# Altium schematic symbol library IC. Interface.SchLib: 24 symbols
Pins are listed as number, name and electrical type; pins without a type are passive.

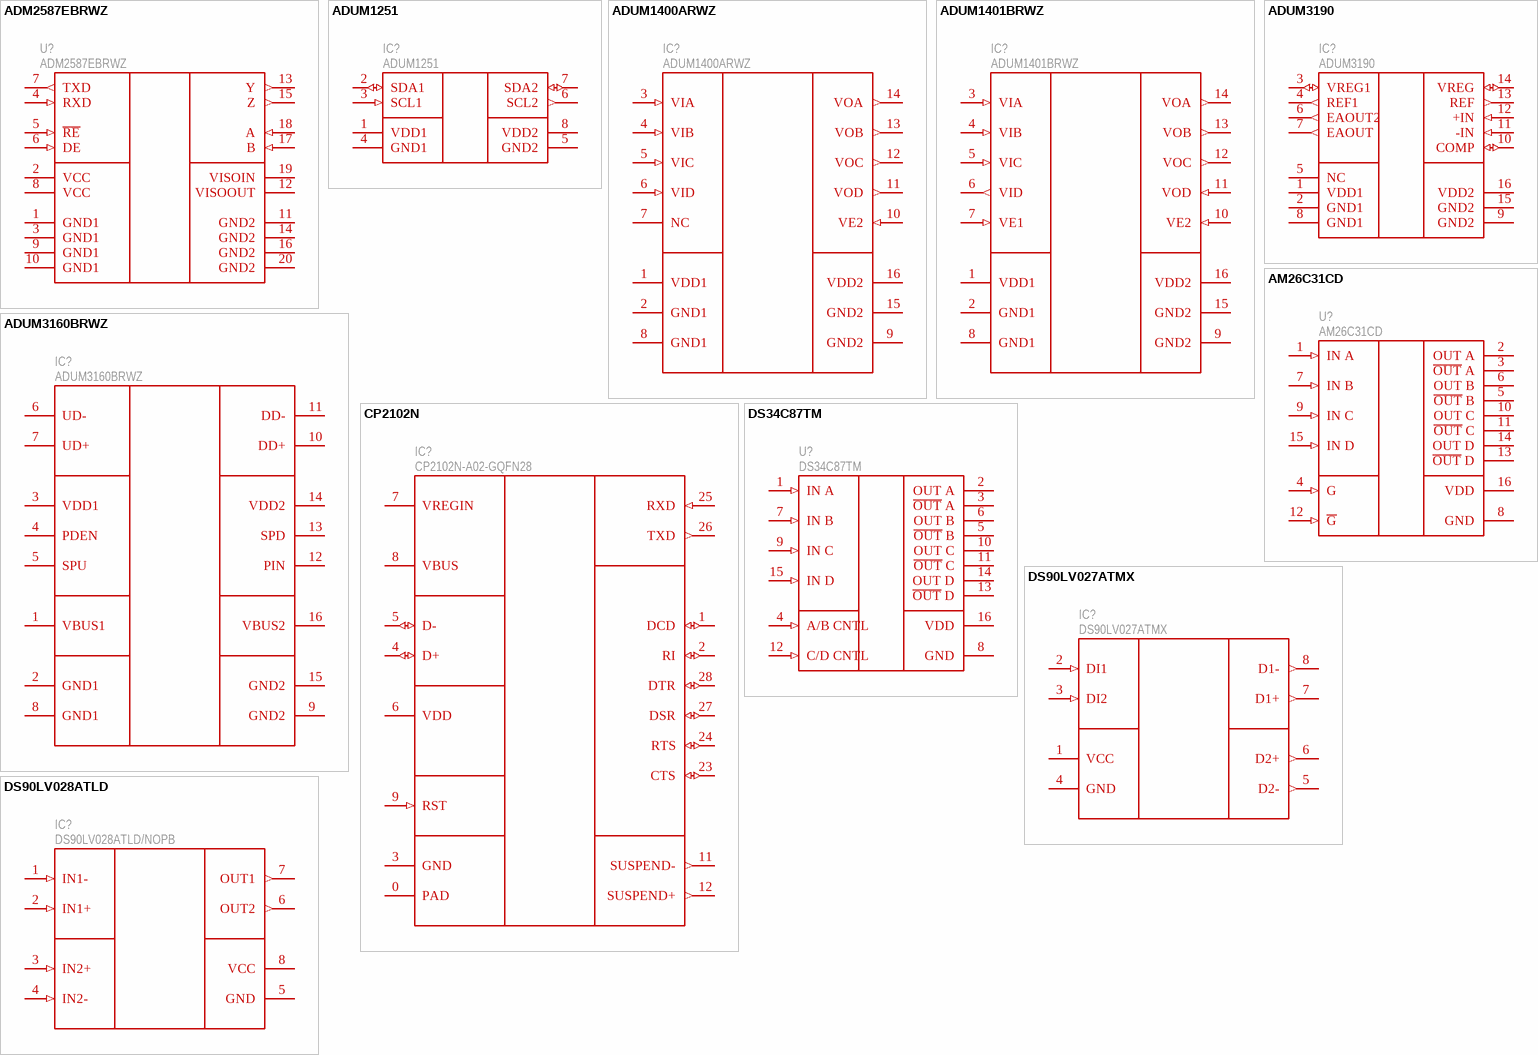
[diagram p0: symbols ADM2587EBRWZ to DS90LV028ATLD]

## ADM2587EBRWZ
designator U?  PartNumber: ADM2587EBRWZ
RS-485 Transceiver with +/- 15 KV ESD Protection, 500 Kbps, -40 to 85 degC, 20-Pin SOIC (RW20), RoHS, Tube; Manufacturer: Analog Devices; Number of Transmitters: 1; Dual Supply Voltage (Max): NotRequiredV; DELETED: Compliant; Data Transmission Topology: Multidrop/Multipoint; Package Version: 060706-A, 06/2006; Single Supply Voltage (Max): 5.5V; Data Rate: 16kbps; Receiver Signal Type: Differential; Rad Hardened: No; Single Supply Voltage (Typ): 3.3/5V; Power Supply Requirement: Single; Single Supply Voltage (Min): 3V; Supply Current: 125mA; Operating Temp Range: -40Cto85C; Mounting: SurfaceMount; Datasheet Version: Rev. E, 10/2014; Manufacturer URL: http://www.analog.com/; Mounting Technology: SurfaceMount; Package Description: 20-Pin Standard Small Outline Package, Body 12.8 x 7.5 mm, Pitch 1.27 mm; Pin Count: 20; Dual Supply Voltage (Typ): NotRequiredV; Package Type: SOICW; Package URL: http://www.analog.com/static/imported-files/packages/233848RW_20.pdf; Packaging: Rail/Tube; Transmitter Signal Type: Differential; Number of Receivers: 1; Number of Transceivers: 1; Package Reference: RW-20; Operating Temperature Classification: Industrial; Dual Supply Voltage (Min): NotRequiredV; Datasheet URL: http://www.analog.com/media/en/technical-documentation/data-sheets/ADM2582E_2587E.pdf
footprint 20-SOIC (SOIC, 20-Leads, Body 12,80x7,50mm, Pitch 1,27mm, IPC Medium Density)
pins: 1 GND1 (power) "Ground, Logic Side.", 2 VCC (power) "Logic Side Power Supply", 3 GND1 (power) "Ground, Logic Side.", 4 RXD (in) "Receiver Output Data", 5 ~{RE} (in) "Receiver Enable Input", 6 DE (in) "Driver Enable Input", 7 TXD (out) "Driver Input", 8 VCC (power) "Logic Side Power Supply", 9 GND1 (power) "Ground, Logic Side.", 10 GND1 (power) "Ground, Logic Side.", 11 GND2 (power) "Ground, Bus Side.", 12 VISOOUT (power) "Isolated Power Supply Output.", 13 Y (out) "Driver Noninverting Output", 14 GND2 (power) "Ground, Bus Side.", 15 Z (out) "Driver Inverting Output", 16 GND2 (power) "Ground, Bus Side.", 17 B (in) "Receiver Inverting Input.", 18 A (in) "Receiver Noninverting Input.", 19 VISOIN (power) "Isolated Power Supply Input.", 20 GND2 (power) "Ground, Bus Side."

## ADUM1251
designator IC?  PartNumber: ADUM1251
I2C Isolator; Manufacturer: Analog Devices; Max Data Rate: 1Mbps; Insulation Rating (kVrms): 2.5; DatasheetVersion: Rev. H; ComponentLink1URL: http://www.analog.com/en/index.html; ComponentLink1Description: Manufacturer URL; ComponentLink3URL: http://www.analog.com/static/imported-files/packages/PKG_PDF/SOIC_WIDE%20%28RW%29/RW_16.pdf; ComponentLink4Description: URL Link1; ComponentLink5URL: Reference Circuit:http://www.analog.com/en/interface-isolation/digital-isolators/adum1400/products/product.html#product-recommendations; PackageReference: RW-16; Max Operating Temp (degreesC): 125; Code_JEDEC: MS-013-AA; PackageVersion: 032707-B, 03/2007; ComponentLink2URL: http://www.analog.com/static/imported-files/data_sheets/ADuM1400_1401_1402.pdf; ComponentLink2Description: Datasheet; ComponentLink3Description: Package Specification; Mounting Technology: Surface Mount; ComponentLink4URL: Product URL:http://www.analog.com/en/interface-isolation/digital-isolators/adum1400/products/product.html; ComponentLink5Description: URL Link2; PackageDescription: 16-Pin Standard Small Outline Package, Body 10.3 x 7.5 mm, Pitch 1.27 mm
footprint 8-SOIC (pitch 1.27 mm)
pins: 1 VDD1 (power), 2 SDA1 (io), 3 SCL1 (in), 4 GND1 (power), 5 GND2 (power), 6 SCL2 (out), 7 SDA2 (io), 8 VDD2 (power)

## ADUM1400ARWZ
designator IC?  PartNumber: ADUM1400ARWZ
Quad Digital Isolator; Manufacturer: Analog Devices; Max Data Rate: 1Mbps; Insulation Rating (kVrms): 2.5; DatasheetVersion: Rev. H; ComponentLink1URL: http://www.analog.com/en/index.html; ComponentLink1Description: Manufacturer URL; ComponentLink3URL: http://www.analog.com/static/imported-files/packages/PKG_PDF/SOIC_WIDE%20%28RW%29/RW_16.pdf; ComponentLink4Description: URL Link1; ComponentLink5URL: Reference Circuit:http://www.analog.com/en/interface-isolation/digital-isolators/adum1400/products/product.html#product-recommendations; PackageReference: RW-16; Max Operating Temp (degreesC): 125; Code_JEDEC: MS-013-AA; PackageVersion: 032707-B, 03/2007; ComponentLink2URL: http://www.analog.com/static/imported-files/data_sheets/ADuM1400_1401_1402.pdf; ComponentLink2Description: Datasheet; ComponentLink3Description: Package Specification; Mounting Technology: Surface Mount; ComponentLink4URL: Product URL:http://www.analog.com/en/interface-isolation/digital-isolators/adum1400/products/product.html; ComponentLink5Description: URL Link2; PackageDescription: 16-Pin Standard Small Outline Package, Body 10.3 x 7.5 mm, Pitch 1.27 mm
footprint 16-tssop (pitch 1.27 mm)
pins: 1 VDD1 (power) "Supply Voltage for Isolator Side 1.", 2 GND1 (power) "Ground 1. Ground reference for Isolator Side 1.", 3 VIA (in) "Logic Input A.", 4 VIB (in) "Logic Input B.", 5 VIC (in) "Logic Input C.", 6 VID (in) "Logic Input D.", 7 NC "No Connect.", 8 GND1 (power) "Ground 1. Ground reference for Isolator Side 1.", 9 GND2 (power) "Ground 2. Ground reference for Isolator Side 2.", 10 VE2 (in) "Output Enable 2. Active high logic input. VOA, VOB, VOC, and VOD outputs are enabled when VE2 is high or disconnected. VOA, VOB, VOC, and VOD outputs are disabled when VE2 is low. In noisy environments, connecting VE2 to an (See Datasheet)", 11 VOD (out) "Logic Output D.", 12 VOC (out) "Logic Output C.", 13 VOB (out) "Logic Output B.", 14 VOA (out) "Logic Output A.", 15 GND2 (power) "Ground 2. Ground reference for Isolator Side 2.", 16 VDD2 (power) "Supply Voltage for Isolator Side 2."

## ADUM1401BRWZ
designator IC?  PartNumber: ADUM1401BRWZ
Quad Digital Isolator; Manufacturer: Analog Devices; Max Data Rate: 1Mbps; Insulation Rating (kVrms): 2.5; DatasheetVersion: Rev. H; ComponentLink1URL: http://www.analog.com/en/index.html; ComponentLink1Description: Manufacturer URL; ComponentLink3URL: http://www.analog.com/static/imported-files/packages/PKG_PDF/SOIC_WIDE%20%28RW%29/RW_16.pdf; ComponentLink4Description: URL Link1; ComponentLink5URL: Reference Circuit:http://www.analog.com/en/interface-isolation/digital-isolators/adum1400/products/product.html#product-recommendations; PackageReference: RW-16; Max Operating Temp (degreesC): 125; Code_JEDEC: MS-013-AA; PackageVersion: 032707-B, 03/2007; ComponentLink2URL: http://www.analog.com/static/imported-files/data_sheets/ADuM1400_1401_1402.pdf; ComponentLink2Description: Datasheet; ComponentLink3Description: Package Specification; Mounting Technology: Surface Mount; ComponentLink4URL: Product URL:http://www.analog.com/en/interface-isolation/digital-isolators/adum1400/products/product.html; ComponentLink5Description: URL Link2; PackageDescription: 16-Pin Standard Small Outline Package, Body 10.3 x 7.5 mm, Pitch 1.27 mm
footprint 16-tssop (pitch 1.27 mm)
pins: 1 VDD1 (power) "Supply Voltage for Isolator Side 1.", 2 GND1 (power) "Ground 1. Ground reference for Isolator Side 1.", 3 VIA (in) "Logic Input A.", 4 VIB (in) "Logic Input B.", 5 VIC (in) "Logic Input C.", 6 VID (out) "Logic Input D.", 7 VE1 (in) "No Connect.", 8 GND1 (power) "Ground 1. Ground reference for Isolator Side 1.", 9 GND2 (power) "Ground 2. Ground reference for Isolator Side 2.", 10 VE2 (in) "Output Enable 2. Active high logic input. VOA, VOB, VOC, and VOD outputs are enabled when VE2 is high or disconnected. VOA, VOB, VOC, and VOD outputs are disabled when VE2 is low. In noisy environments, connecting VE2 to an (See Datasheet)", 11 VOD (in) "Logic Output D.", 12 VOC (out) "Logic Output C.", 13 VOB (out) "Logic Output B.", 14 VOA (out) "Logic Output A.", 15 GND2 (power) "Ground 2. Ground reference for Isolator Side 2.", 16 VDD2 (power) "Supply Voltage for Isolator Side 2."

## ADUM3160BRWZ
designator IC?  PartNumber: ADUM3160BRWZ
USB isolator; Manufacturer: Texas Instruments; ValueManufacturerPartNumber: IC USB isolator, 12Mbps, 2500Vrms, 3...5.5V, -40...+125°C, 16-TSSOP; Supply: 3...5.5V; DataRate: 12Mbps; Isolation: 2500Vrms; HelpURL: https://www.digikey.com/product-detail/en/analog-devices-inc/ADUM3160BRWZ-RL/ADUM3160BRWZ-RLCT-ND/3897186; Package: 16-TSSOP; ComponentType: IC USB isolator; Temperature: -40...+125°C
footprint 16-TSSOP (pitch 1.27 mm)
pins: 1 VBUS1, 2 GND1, 3 VDD1, 4 PDEN, 5 SPU, 6 UD-, 7 UD+, 8 GND1, 9 GND2, 10 DD+, 11 DD-, 12 PIN, 13 SPD, 14 VDD2, 15 GND2, 16 VBUS2

## ADUM3190
designator IC?  PartNumber: ADUM3190
Analog Digital Isolator; Manufacturer: Analog Devices; Max Data Rate: 1Mbps; Insulation Rating (kVrms): 2.5; DatasheetVersion: Rev. H; ComponentLink1URL: http://www.analog.com/en/index.html; ComponentLink1Description: Manufacturer URL; ComponentLink3URL: http://www.analog.com/static/imported-files/packages/PKG_PDF/SOIC_WIDE%20%28RW%29/RW_16.pdf; ComponentLink4Description: URL Link1; ComponentLink5URL: Reference Circuit:http://www.analog.com/en/interface-isolation/digital-isolators/adum1400/products/product.html#product-recommendations; PackageReference: RW-16; Max Operating Temp (degreesC): 125; Code_JEDEC: MS-013-AA; PackageVersion: 032707-B, 03/2007; ComponentLink2URL: http://www.analog.com/static/imported-files/data_sheets/ADuM1400_1401_1402.pdf; ComponentLink2Description: Datasheet; ComponentLink3Description: Package Specification; Mounting Technology: Surface Mount; ComponentLink4URL: Product URL:http://www.analog.com/en/interface-isolation/digital-isolators/adum1400/products/product.html; ComponentLink5Description: URL Link2; PackageDescription: 16-Pin Standard Small Outline Package, Body 10.3 x 7.5 mm, Pitch 1.27 mm
footprint 16-SSOP (pitch 0.635 mm)
pins: 1 VDD1 (power), 2 GND1 (power), 3 VREG1 (io), 4 REF1 (out), 5 NC, 6 EAOUT2 (out), 7 EAOUT (out), 8 GND1 (power), 9 GND2 (power), 10 COMP (io), 11 -IN (in), 12 +IN (in), 13 REF (out), 14 VREG (io), 15 GND2 (power), 16 VDD2 (power)

## AM26C31CD
designator U?  PartNumber: AM26C31CD
CMOS Quad Differential Line Driver; Manufacturer: Texas Instruments; PackageTopMarking: NSUZXYTTE#*DS34C87TM; PowerWise: N; CompType: Interface IC; ComponentLink1URL: http://www.ti.com/general/docs/lit/getliterature.tsp?genericPartNumber=DS34C87T&fileType=pdf; Code_JEDEC: MS-012-AC; PackageReference: D0016A; RoHS: Y; PackageDescription: Molded Package, SO, .150in Wide, 16 Lead; PinCount: 16; Code_IPC: SOIC127P600-16; ComponentLink1Description: Datasheet URL
footprint 16-SO (pitch 1.27 mm)
pins: 1 IN A (in), 2 OUT A (hiz), 3 ~{OUT} A (hiz), 4 G (in), 5 ~{OUT} B (hiz), 6 OUT B (hiz), 7 IN B (in), 8 GND (power), 9 IN C (in), 10 OUT C (hiz), 11 ~{OUT} C (hiz), 12 ~{G} (in), 13 ~{OUT} D (hiz), 14 OUT D (hiz), 15 IN D (in), 16 VDD (power)

## CP2102N
designator IC?  PartNumber: CP2102N-A02-GQFN28
USB-to-UART; Manufacturer: Silicon Labs; ValueManufacturerPartNumber: IC usb-to-uart bridge, USB2.0, 3...3.6V, -40...+85°C, 28-VFQFN; Supply: 3...3.6V; HelpURL: https://www.digikey.com/product-detail/en/silicon-labs/CP2102N-A02-GQFN28/336-5889-ND/9863477; Package: 28-VFQFN; ComponentType: IC usb-to-uart bridge; Temperature: -40...+85°C; Standard: USB2.0
footprint 28-QFN (5x5) (5x5 mm, pitch 0.5 mm, power pad)
pins: 0 PAD, 1 DCD (io), 2 RI (io), 3 GND, 4 D+ (io), 5 D- (io), 6 VDD, 7 VREGIN, 8 VBUS, 9 RST (in), 11 SUSPEND- (out), 12 SUSPEND+ (out), 23 CTS (io), 24 RTS (io), 25 RXD (in), 26 TXD (out), 27 DSR (io), 28 DTR (io)

## DS34C87TM
designator U?  PartNumber: DS34C87TM
CMOS Quad Tri-State Differential Line Driver; Manufacturer: Texas Instruments; PackageTopMarking: NSUZXYTTE#*DS34C87TM; PowerWise: N; CompType: Interface IC; ComponentLink1URL: http://www.ti.com/general/docs/lit/getliterature.tsp?genericPartNumber=DS34C87T&fileType=pdf; Code_JEDEC: MS-012-AC; PackageReference: D0016A; RoHS: Y; PackageDescription: Molded Package, SO, .150in Wide, 16 Lead; PinCount: 16; Code_IPC: SOIC127P600-16; ComponentLink1Description: Datasheet URL
footprint 16-SO (pitch 1.27 mm)
pins: 1 IN A (in), 2 OUT A (hiz), 3 ~{OUT} A (hiz), 4 A/B CNTL (in), 5 ~{OUT} B (hiz), 6 OUT B (hiz), 7 IN B (in), 8 GND (power), 9 IN C (in), 10 OUT C (hiz), 11 ~{OUT} C (hiz), 12 C/D CNTL (in), 13 ~{OUT} D (hiz), 14 OUT D (hiz), 15 IN D (in), 16 VDD (power)

## DS90LV027ATMX
designator IC?  PartNumber: DS90LV027ATMX
CMOS-to-LVDS; Manufacturer: Texas Instruments; ValueManufacturerPartNumber: IC LVDS driver, 600 Mbps, LVDS, 3...3.6V, -40...+85°C, 8-SOIC; Supply: 3...3.6V; DataRate: 600 Mbps; Protocol: LVDS; HelpURL: https://www.digikey.com/product-detail/en/texas-instruments/DS90LV027ATMX-NOPB/296-35388-1-ND/3739092; Package: 8-SOIC; ComponentType: IC LVDS driver; Temperature: -40...+85°C
footprint 8-SOIC (pitch 1.27 mm)
pins: 1 VCC, 2 DI1 (in), 3 DI2 (in), 4 GND, 5 D2- (out), 6 D2+ (out), 7 D1+ (out), 8 D1- (out)

## DS90LV028ATLD
designator IC?  PartNumber: DS90LV028ATLD/NOPB
LVDS-to-CMOS; Manufacturer: Texas Instruments; ValueManufacturerPartNumber: IC LVDS driver, 400 Mbps, LVDS, 3...3.6V, -40...+85°C, 8-WSON; Supply: 3...3.6V; DataRate: 400 Mbps; Protocol: LVDS; HelpURL: https://www.digikey.com/product-detail/en/texas-instruments/DS90LV028ATLD-NOPB/DS90LV028ATLD-NOPBCT-ND/562328; Package: 8-WSON; ComponentType: IC LVDS driver; Temperature: -40...+85°C
footprint 8-WSON (4x4) (4x4 mm, pitch 0.8 mm, power pad)
pins: 1 IN1- (in), 2 IN1+ (in), 3 IN2+ (in), 4 IN2- (in), 5 GND (power), 6 OUT2 (out), 7 OUT1 (out), 8 VCC (power)

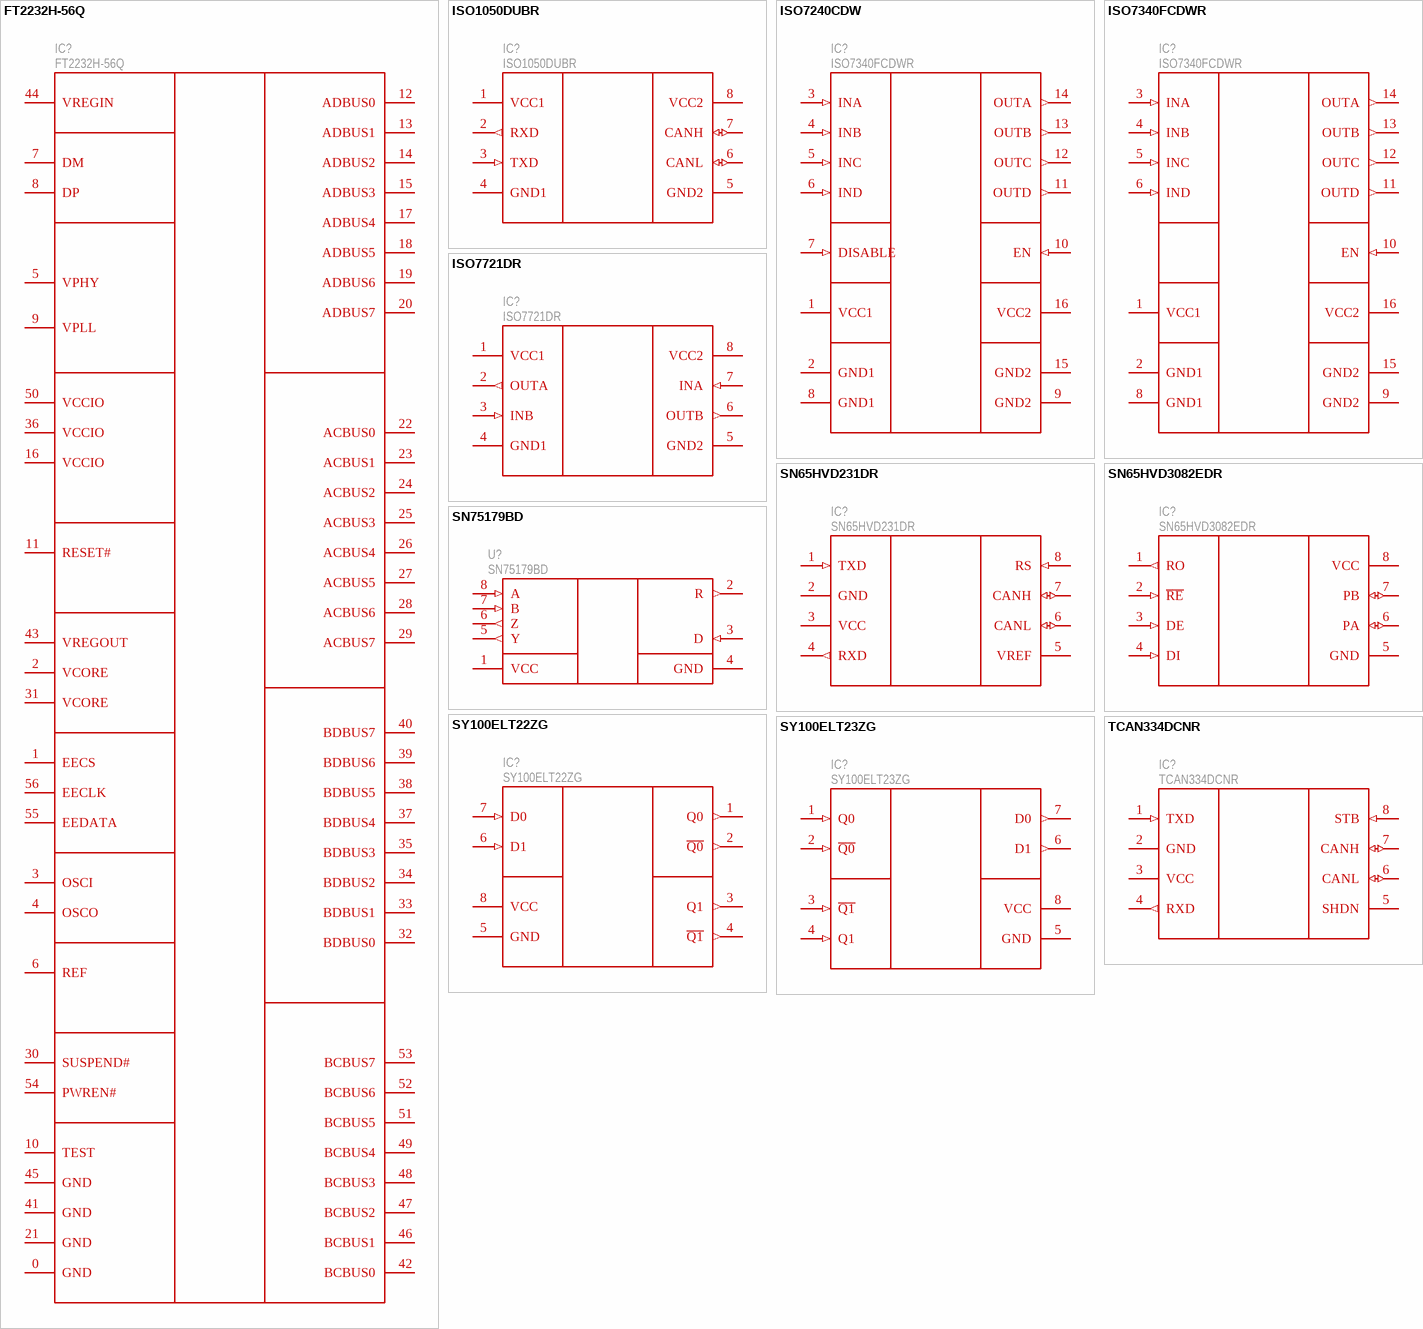
[diagram p1: symbols FT2232H-56Q to TCAN334DCNR]

## FT2232H-56Q
designator IC?  PartNumber: FT2232H-56Q
USB2.0-to-UART; Manufacturer: FTDI; ValueManufacturerPartNumber: IC usb-to-uart bridge, USB2.0, 3.3V, -40...+85°C, 56-VQFN; Supply: 3.3V; HelpURL: https://www.digikey.com/product-detail/en/texas-instruments/LMV321IDBVR/296-9567-1-ND/379849; Package: 56-VQFN; ComponentType: IC usb-to-uart bridge; Temperature: -40...+85°C; Standard: USB2.0
footprint 56-QFN (8x8 mm, pitch 0.5 mm, power pad)
pins: 0 GND, 1 EECS, 2 VCORE, 3 OSCI, 4 OSCO, 5 VPHY, 6 REF, 7 DM, 8 DP, 9 VPLL, 10 TEST, 11 RESET#, 12 ADBUS0, 13 ADBUS1, 14 ADBUS2, 15 ADBUS3, 16 VCCIO, 17 ADBUS4, 18 ADBUS5, 19 ADBUS6, 20 ADBUS7, 21 GND, 22 ACBUS0, 23 ACBUS1, 24 ACBUS2, 25 ACBUS3, 26 ACBUS4, 27 ACBUS5, 28 ACBUS6, 29 ACBUS7, 30 SUSPEND#, 31 VCORE, 32 BDBUS0, 33 BDBUS1, 34 BDBUS2, 35 BDBUS3, 36 VCCIO, 37 BDBUS4, 38 BDBUS5, 39 BDBUS6, 40 BDBUS7, 41 GND, 42 BCBUS0, 43 VREGOUT, 44 VREGIN, 45 GND, 46 BCBUS1, 47 BCBUS2, 48 BCBUS3, 49 BCBUS4, 50 VCCIO, 51 BCBUS5, 52 BCBUS6, 53 BCBUS7, 54 PWREN#, 55 EEDATA, 56 EECLK

## ISO1050DUBR
designator IC?  PartNumber: ISO1050DUBR
CAN isolator; Manufacturer: Texas Instruments; ValueManufacturerPartNumber: IC CAN isolator, 1Mbps, Half-duplex, 3...5.5V, -55...+105°C, 8-SOP; Supply: 3...5.5V; DataRate: 1Mbps; TypeDuplex: Half-duplex; HelpURL: https://www.digikey.com/product-detail/en/texas-instruments/ISO1050DUBR/296-24818-1-ND/2094658; Package: 8-SOP; ComponentType: IC CAN isolator; Temperature: -55...+105°C
footprint 8-SOP (pitch 2.54 mm)
pins: 1 VCC1, 2 RXD (out), 3 TXD (in), 4 GND1, 5 GND2, 6 CANL (io), 7 CANH (io), 8 VCC2

## ISO7240CDW
designator IC?  PartNumber: ISO7340FCDWR
Digital isolator; Manufacturer: Texas Instruments; ValueManufacturerPartNumber: IC digital isolator, 25Mbps, 3000Vrms, 3...5.5V, -40...+125°C, 16-TSSOP; Supply: 3...5.5V; DataRate: 25Mbps; Isolation: 3000Vrms; HelpURL: https://www.digikey.com/product-detail/en/texas-instruments/LMV321IDBVR/296-9567-1-ND/379849; Package: 16-TSSOP; ComponentType: IC digital isolator; Temperature: -40...+125°C
footprint 16-TSSOP (pitch 1.27 mm)
pins: 1 VCC1 (power), 2 GND1 (power), 3 INA (in), 4 INB (in), 5 INC (in), 6 IND (in), 7 DISABLE (in), 8 GND1 (power), 9 GND2 (power), 10 EN (in), 11 OUTD (out), 12 OUTC (out), 13 OUTB (out), 14 OUTA (out), 15 GND2 (power), 16 VCC2 (power)

## ISO7340FCDWR
designator IC?  PartNumber: ISO7340FCDWR
Digital isolator; Manufacturer: Texas Instruments; ValueManufacturerPartNumber: IC digital isolator, 25Mbps, 3000Vrms, 3...5.5V, -40...+125°C, 16-TSSOP; Supply: 3...5.5V; DataRate: 25Mbps; Isolation: 3000Vrms; HelpURL: https://www.digikey.com/product-detail/en/texas-instruments/LMV321IDBVR/296-9567-1-ND/379849; Package: 16-TSSOP; ComponentType: IC digital isolator; Temperature: -40...+125°C
footprint 16-TSSOP (pitch 1.27 mm)
pins: 1 VCC1 (power), 2 GND1 (power), 3 INA (in), 4 INB (in), 5 INC (in), 6 IND (in), 8 GND1 (power), 9 GND2 (power), 10 EN (in), 11 OUTD (out), 12 OUTC (out), 13 OUTB (out), 14 OUTA (out), 15 GND2 (power), 16 VCC2 (power)

## ISO7721DR
designator IC?  PartNumber: ISO7721DR
Digital isolator; Manufacturer: Texas Instruments; ValueManufacturerPartNumber: IC digital isolator, 100Mbps, 3000Vrms, 2.25...5.5V, -55...+125°C, 8-SOIC; Supply: 2.25...5.5V; DataRate: 100Mbps; Isolation: 3000Vrms; HelpURL: https://www.digikey.com/product-detail/en/texas-instruments/ISO7721DR/296-48296-1-ND/8347715; Package: 8-SOIC; ComponentType: IC digital isolator; Temperature: -55...+125°C
footprint 8-SOIC (pitch 1.27 mm)
pins: 1 VCC1, 2 OUTA (out), 3 INB (in), 4 GND1, 5 GND2, 6 OUTB (out), 7 INA (in), 8 VCC2

## SN65HVD231DR
designator IC?  PartNumber: SN65HVD231DR
CAN; Manufacturer: Texas Instruments; ValueManufacturerPartNumber: IC CAN transceiver, 1Mbps, Half-duplex, 3...3.6V, -40...+85°C, 8-SOIC; Supply: 3...3.6V; DataRate: 1Mbps; TypeDuplex: Half-duplex; HelpURL: https://www.digikey.com/product-detail/en/texas-instruments/SN65HVD231DR/296-26343-1-ND/2254977; Package: 8-SOIC; ComponentType: IC CAN transceiver; Temperature: -40...+85°C
footprint 8-SOIC (pitch 1.27 mm)
pins: 1 TXD (in), 2 GND, 3 VCC, 4 RXD (out), 5 VREF, 6 CANL (io), 7 CANH (io), 8 RS (in)

## SN65HVD3082EDR
designator IC?  PartNumber: SN65HVD3082EDR
RS485; Manufacturer: Texas Instruments; ValueManufacturerPartNumber: IC RS485 transceiver, 200 kbps, Half-duplex, 4.5...5.5V, -40...+85°C, 8-SOIC; Supply: 4.5...5.5V; DataRate: 200 kbps; TypeDuplex: Half-duplex; HelpURL: https://www.digikey.com/product-detail/en/texas-instruments/SN65HVD3082EDR/296-31719-1-ND/3505195; Package: 8-SOIC; ComponentType: IC RS485 transceiver; Temperature: -40...+85°C
footprint 8-SOIC (pitch 1.27 mm)
pins: 1 RO (out), 2 ~{RE} (in), 3 DE (in), 4 DI (in), 5 GND (power), 6 PA (io), 7 PB (io), 8 VCC (power)

## SN75179BD
designator U?  PartNumber: SN75179BD
DUAL DIFFERENTIAL LINE RECEIVER; Manufacturer: Analog Devices; Number of Transmitters: 1; Dual Supply Voltage (Max): NotRequiredV; DELETED: Compliant; Data Transmission Topology: Multidrop/Multipoint; Package Version: 060706-A, 06/2006; Single Supply Voltage (Max): 5.5V; Data Rate: 16kbps; Rad Hardened: No; Single Supply Voltage (Typ): 3.3/5V; Power Supply Requirement: Single; Single Supply Voltage (Min): 3V; Supply Current: 125mA; Operating Temp Range: -40Cto85C; Mounting: SurfaceMount; Datasheet Version: Rev. E, 10/2014; Manufacturer URL: http://www.analog.com/; Mounting Technology: SurfaceMount; Package Description: 20-Pin Standard Small Outline Package, Body 12.8 x 7.5 mm, Pitch 1.27 mm; Pin Count: 20; Dual Supply Voltage (Typ): NotRequiredV; Receiver Signal Type: Differential; Package Type: SOICW; Package URL: http://www.analog.com/static/imported-files/packages/233848RW_20.pdf; Packaging: Rail/Tube; Transmitter Signal Type: Differential; Number of Receivers: 1; Number of Transceivers: 1; Package Reference: RW-20; Operating Temperature Classification: Industrial; Dual Supply Voltage (Min): NotRequiredV; Datasheet URL: http://www.analog.com/media/en/technical-documentation/data-sheets/ADM2582E_2587E.pdf
footprint 8-SOIC (pitch 1.27 mm)
pins: 1 VCC (power) "Logic Side Power Supply", 2 R (out) "Driver Noninverting Output", 3 D (in) "Driver Inverting Output", 4 GND (power) "Ground, Bus Side.", 5 Y (out) "Driver Enable Input", 6 Z (out) "Receiver Enable Input", 7 B (in) "Receiver Enable Input", 8 A (in) "Receiver Enable Input"

## SY100ELT22ZG
designator IC?  PartNumber: SY100ELT22ZG
TTL-to-PECL; Manufacturer: Microchip Technology; ValueManufacturerPartNumber: IC TTL-to-PECL translator, Unidirectional, 4.5...5.5V, -40...+85°C, 8-SOIC; Supply: 4.5...5.5V; ChannelType: Unidirectional; HelpURL: https://www.digikey.com/product-detail/en/microchip-technology/SY100ELT22ZG-TR/SY100ELT22ZG-CT-ND/9923834; Package: 8-SOIC; ComponentType: IC TTL-to-PECL translator; Temperature: -40...+85°C
footprint 8-SOIC (pitch 1.27 mm)
pins: 1 Q0 (out), 2 ~{Q0} (out), 3 Q1 (out), 4 ~{Q1} (out), 5 GND (power), 6 D1 (in), 7 D0 (in), 8 VCC (power)

## SY100ELT23ZG
designator IC?  PartNumber: SY100ELT23ZG
PECL-to-TTL; Manufacturer: Microchip Technology; ValueManufacturerPartNumber: IC PECL-to-TTL translator, Unidirectional, 4.5...5.5V, -40...+85°C, 8-SOIC; Supply: 4.5...5.5V; ChannelType: Unidirectional; HelpURL: https://www.digikey.com/product-detail/en/microchip-technology/SY100ELT23ZG/576-1363-ND/771955; Package: 8-SOIC; ComponentType: IC PECL-to-TTL translator; Temperature: -40...+85°C
footprint 8-SOIC (pitch 1.27 mm)
pins: 1 Q0 (in), 2 ~{Q0} (in), 3 ~{Q1} (in), 4 Q1 (in), 5 GND (power), 6 D1 (out), 7 D0 (out), 8 VCC (power)

## TCAN334DCNR
designator IC?  PartNumber: TCAN334DCNR
CAN; Manufacturer: Texas Instruments; ValueManufacturerPartNumber: IC CAN transceiver, 1Mbps, Half-duplex, 3...3.6V, -40...+125°C, SOT23-8; Supply: 3...3.6V; DataRate: 1Mbps; TypeDuplex: Half-duplex; HelpURL: https://www.digikey.com/product-detail/en/texas-instruments/TCAN334DCNR/296-47830-1-ND/8133179; Package: SOT23-8; ComponentType: IC CAN transceiver; Temperature: -40...+125°C
footprint SOT23-8 (pitch 0.95 mm)
pins: 1 TXD (in), 2 GND, 3 VCC, 4 RXD (out), 5 SHDN, 6 CANL (io), 7 CANH (io), 8 STB (in)

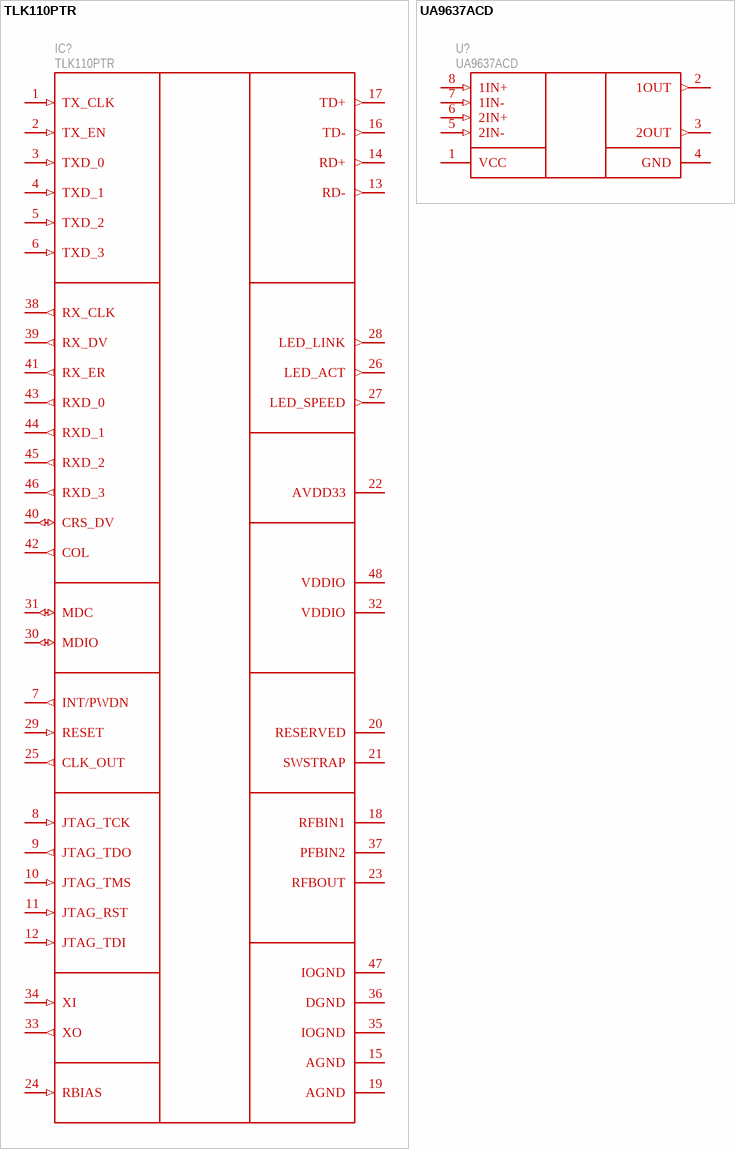
[diagram p2: symbols TLK110PTR to UA9637ACD]

## TLK110PTR
designator IC?  PartNumber: TLK110PTR
Ethernet; Manufacturer: Texas Instruments; ValueManufacturerPartNumber: IC ethernet transceiver, 10/100 Mbps, MII, RMII, 3...3.6V, -40...+85°C, 48-LQFP; Supply: 3...3.6V; DataRate: 10/100 Mbps; Protocol: MII, RMII; HelpURL: https://www.digikey.com/product-detail/en/texas-instruments/TLK110PTR/296-30096-1-ND/2798835; Package: 48-LQFP; ComponentType: IC ethernet transceiver; Temperature: -40...+85°C
footprint 48-LQFP (QFP, 48-Leads, Body 7x7mm, Pitch 0.5mm, IPC Medium Density)
pins: 1 TX_CLK (in), 2 TX_EN (in), 3 TXD_0 (in), 4 TXD_1 (in), 5 TXD_2 (in), 6 TXD_3 (in), 7 INT/PWDN (out), 8 JTAG_TCK (in), 9 JTAG_TDO (out), 10 JTAG_TMS (in), 11 JTAG_RST (in), 12 JTAG_TDI (in), 13 RD- (out), 14 RD+ (out), 15 AGND (power), 16 TD- (out), 17 TD+ (out), 18 RFBIN1 (power), 19 AGND (power), 20 RESERVED, 21 SWSTRAP, 22 AVDD33 (power), 23 RFBOUT (power), 24 RBIAS (in), 25 CLK_OUT (out), 26 LED_ACT (out), 27 LED_SPEED (out), 28 LED_LINK (out), 29 RESET (in), 30 MDIO (io), 31 MDC (io), 32 VDDIO (power), 33 XO (out), 34 XI (in), 35 IOGND (power), 36 DGND (power), 37 PFBIN2 (power), 38 RX_CLK (out), 39 RX_DV (out), 40 CRS_DV (io), 41 RX_ER (out), 42 COL (out), 43 RXD_0 (out), 44 RXD_1 (out), 45 RXD_2 (out), 46 RXD_3 (out), 47 IOGND (power), 48 VDDIO (power)

## UA9637ACD
designator U?  PartNumber: UA9637ACD
DUAL DIFFERENTIAL LINE RECEIVER; Manufacturer: Analog Devices; Number of Transmitters: 1; Dual Supply Voltage (Max): NotRequiredV; DELETED: Compliant; Data Transmission Topology: Multidrop/Multipoint; Package Version: 060706-A, 06/2006; Single Supply Voltage (Max): 5.5V; Data Rate: 16kbps; Rad Hardened: No; Single Supply Voltage (Typ): 3.3/5V; Power Supply Requirement: Single; Single Supply Voltage (Min): 3V; Supply Current: 125mA; Operating Temp Range: -40Cto85C; Mounting: SurfaceMount; Datasheet Version: Rev. E, 10/2014; Manufacturer URL: http://www.analog.com/; Mounting Technology: SurfaceMount; Package Description: 20-Pin Standard Small Outline Package, Body 12.8 x 7.5 mm, Pitch 1.27 mm; Pin Count: 20; Dual Supply Voltage (Typ): NotRequiredV; Receiver Signal Type: Differential; Package Type: SOICW; Package URL: http://www.analog.com/static/imported-files/packages/233848RW_20.pdf; Packaging: Rail/Tube; Transmitter Signal Type: Differential; Number of Receivers: 1; Number of Transceivers: 1; Package Reference: RW-20; Operating Temperature Classification: Industrial; Dual Supply Voltage (Min): NotRequiredV; Datasheet URL: http://www.analog.com/media/en/technical-documentation/data-sheets/ADM2582E_2587E.pdf
footprint 8-SOIC (pitch 1.27 mm)
pins: 1 VCC (power) "Logic Side Power Supply", 2 1OUT (out) "Driver Noninverting Output", 3 2OUT (out) "Driver Inverting Output", 4 GND (power) "Ground, Bus Side.", 5 2IN- (in) "Driver Enable Input", 6 2IN+ (in) "Receiver Enable Input", 7 1IN- (in) "Receiver Enable Input", 8 1IN+ (in) "Receiver Enable Input"